# Altium schematic symbol library Schlib.SchLib: 67 symbols
Pins are listed as number, name and electrical type; pins without a type are passive.

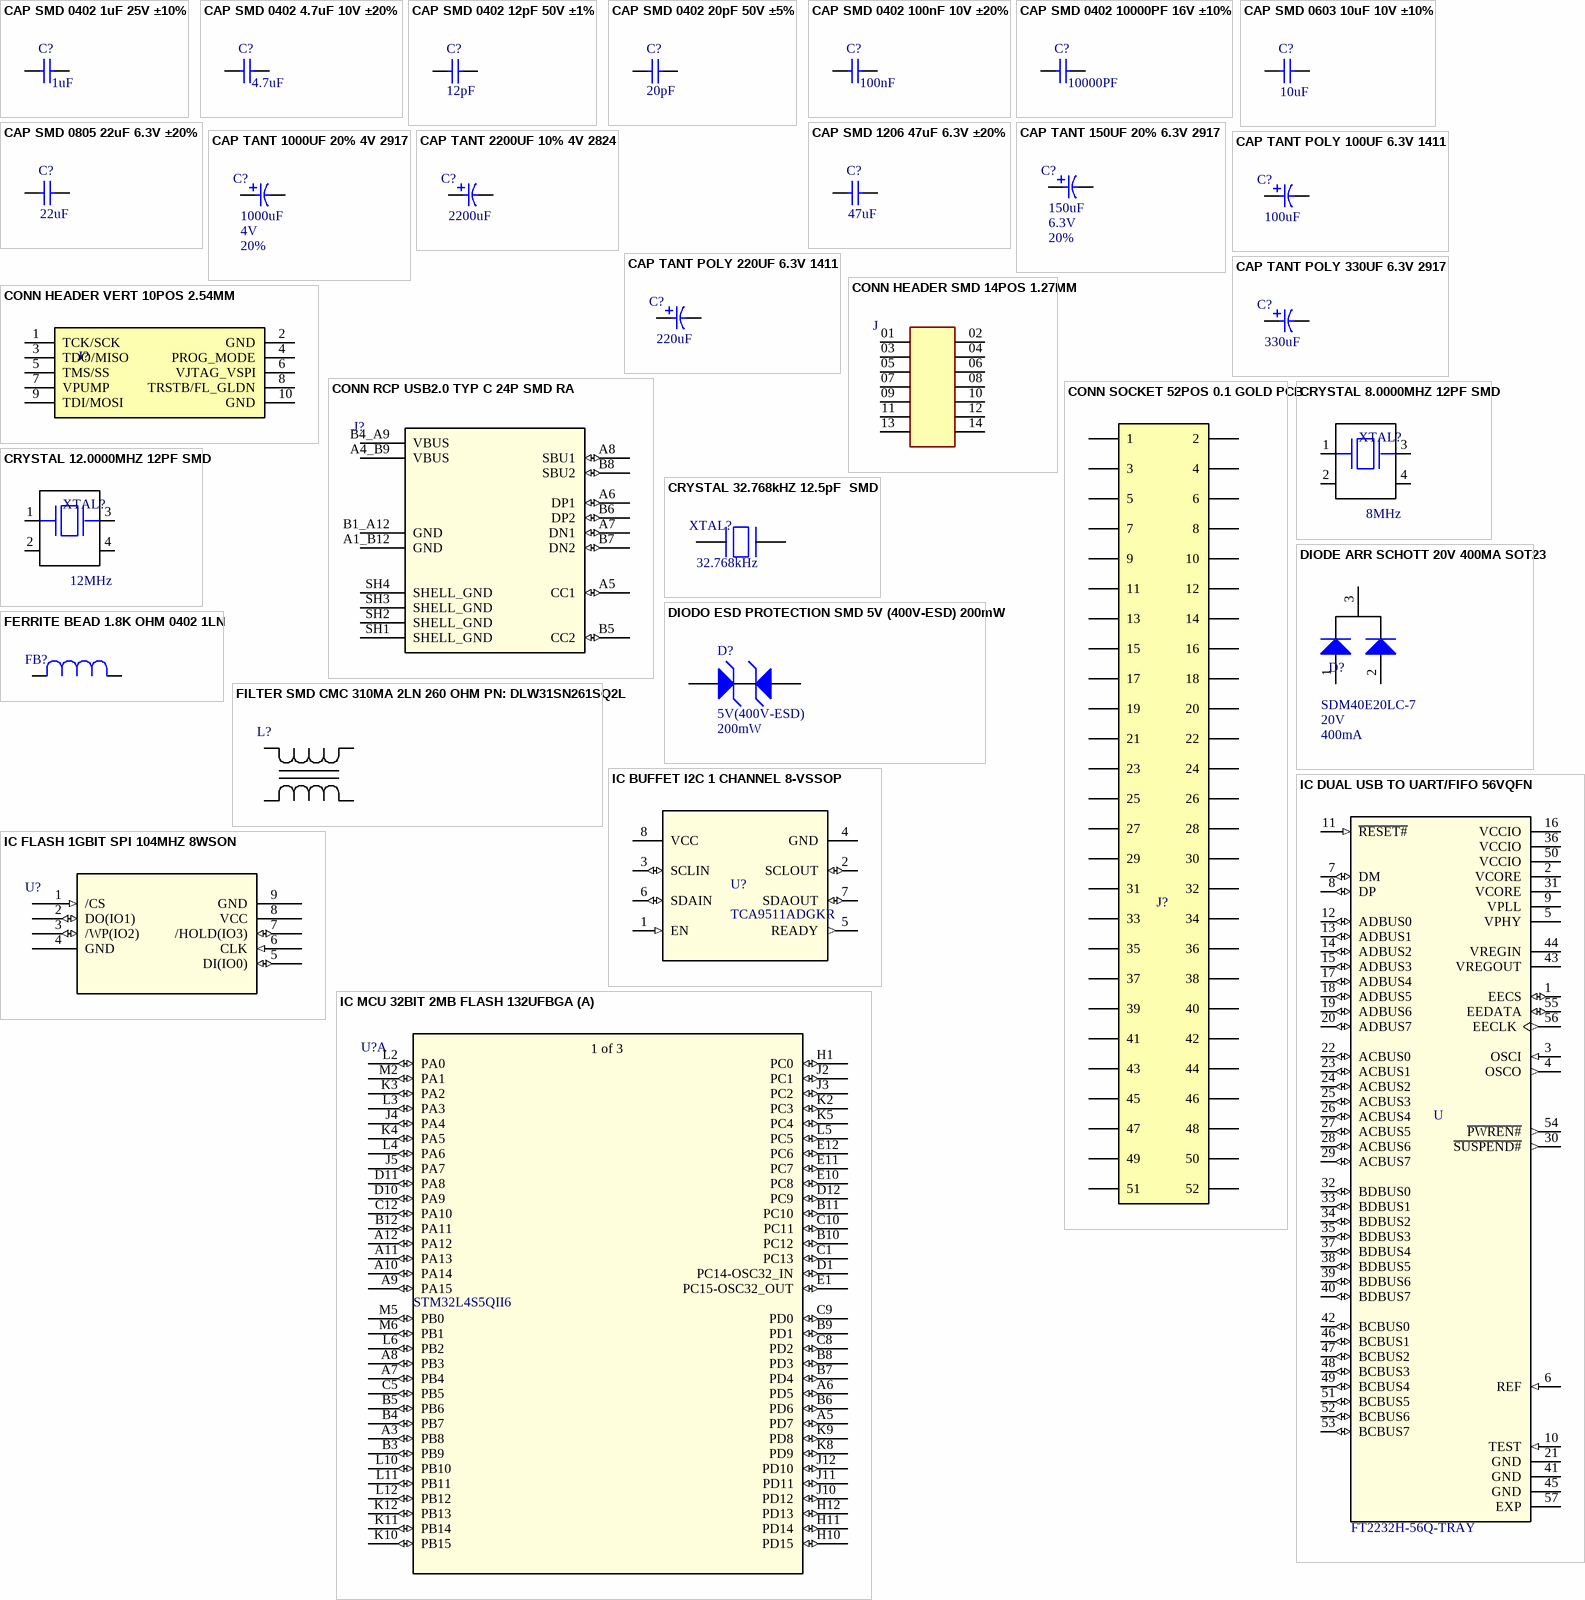
[diagram p0: symbols CAP SMD 0402 1uF 25V ±10% to IC MCU 32BIT 2MB FLASH 132UFBGA]

## CAP SMD 0402 1uF 25V ±10%
designator C?, comment value 1uF  (hidden comment: GRM155R61E105KA12D)
CAP SMD 0402 MLCC GERAL 1uF 25V ±10% 0402 X5R PN:GRM155R61E105KA12D MURATA; SIZE: 0402; VOLTAGE: 25V; TOLERANCE: 10%; PN: GRM155R61E105KA12D
footprint 0402-C-R
pins: 1, 2

## CAP SMD 0402 4.7uF 10V ±20%
designator C?, comment value 4.7uF  (hidden comment: GRM155R61A475MEAAD)
CAP SMD 0402 MLCC GERAL 4.7uF 10V ±20% 0402 X5R PN:GRM155R61A475MEAAD MURATA; SIZE: 0402; VOLTAGE: 10V; TOLERANCE: 20%; PN: GRM155R61A475MEAAD
footprint 0402-C-R
pins: 1, 2

## CAP SMD 0402 12pF 50V ±1%
designator C?, comment value 12pF  (hidden comment: GCM1555C1H120FA16J)
CAP SMD CER 12pF 50V ±1% 0402 C0G,NP0 TAPE PN: GCM1555C1H120FA16J; POWER: 50V; TOLERANCE: 1%; PN: GCM1555C1H120FA16J
footprint 0402-C-R
pins: 1, 2

## CAP SMD 0402 20pF 50V ±5%
designator C?, comment value 20pF  (hidden comment: CC0402JRNPO9BN200)
CAP SMD CER 20pF 50V ±5% 0402 C0G,NP0 TAPE PN:CC0402JRNPO9BN200 YAGEO; POWER: 50V; TOLERANCE: 5%; PN: CC0402JRNPO9BN200
footprint 0402-C-R
pins: 1, 2

## CAP SMD 0402 100nF 10V ±20%
designator C?, comment value 100nF  (hidden comment: C0402C104K8RACTU)
CAP SMD 0402 MLCC GERAL 100nF 10V ±20% 0402 X7R PN:C0402C104K8RACTU KEMET; SIZE: 0402; VOLTAGE: 10V; TOLERANCE: 20%; PN: C0402C104K8RACTU
footprint 0402-C-R
footprint 0402-C-R - S
pins: 1, 2

## CAP SMD 0402 10000PF 16V ±10%
designator C?, comment value 10000PF  (hidden comment: C0402C103K4RACTU)
CAP SMD 0402 MLCC GERAL 10000PF 16V ±10% 0402 X7R PN:C0402C103K4RACTU KEMET; SIZE: 0402; VOLTAGE: 16V; TOLERANCE: 10%; PN: C0402C103K4RACTU
footprint 0402-C-R
footprint 0402-C-R - S
pins: 1, 2

## CAP SMD 0603 10uF 10V ±10%
designator C?  value 10uF
CAP SMD 0603 MLCC GERAL 10uF 10V ±10% X7R PN: GRM188Z71A106KA73D; SIZE: 0603; PN: GRM188Z71A106KA73D; VOLTAGE: 10V; TOLERANCE: 10%
footprint 0603-C-R
pins: 1, 2

## CAP SMD 0805 22uF 6.3V ±20%
designator C?, comment value 22uF  (hidden comment: GRM21BZ70J226ME44L)
CAP SMD 0805 MLCC GERAL 22uF 6.3V ±20% X7R PN:GRM21BZ70J226ME44L; SIZE: 0805; VOLTAGE: 6.3V; TOLERANCE: 20%; PN: GRM21BZ70J226ME44L
footprint 0805-C-R
pins: 1, 2

## CAP SMD 1206 47uF 6.3V ±20%
designator C?, comment value 47uF  (hidden comment: C3216X7S0J476M160AC)
CAP SMD 1206 MLCC GERAL 47uF 6.3V ±20% X7S PN:C3216X7S0J476M160AC; SIZE: 1206; VOLTAGE: 6.3V; TOLERANCE: 20%; PN: C3216X7S0J476M160AC
footprint 1206-C-R
pins: 1, 2

## CAP TANT 150UF 20% 6.3V 2917
designator C?, comment value 150uF  Tolerance: 20%  Voltage: 6.3V  (hidden comment: T599D157M006ATE045)
CAP TANT 150UF 20% 6.3V 2917 PN: T599D157M006ATE045; Mfr_Name: Kemet; PN: T599D157M006ATE045
footprint CAPMP7.6X4.3_3.1N_KEM
pins: 1, 2

## CAP TANT 1000UF 20% 4V 2917
designator C?, comment value 1000uF  Tolerance: 20%  Voltage: 4V  (hidden comment: T530X108M004ATE006)
CAP TANT 1000UF 20% 4V 2917 PN: T530X108M004ATE006; Mfr_Name: Kemet
footprint CAPMP7.6X4.3_3.1N_KEM
pins: 1, 2

## CAP TANT 2200UF 10% 4V 2824
designator C?, comment value 2200uF  (hidden comment: F750G228KRC)
CAP TANT 2200UF 10% 4V 2824 PN: F750G228KRC; Mfr_Name: Kemet; Tolerance: 20%; PN: F750G228KRC; Voltage: 4V
footprint TANT_2824_AVX
pins: 1, 2

## CAP TANT POLY 100UF 6.3V 1411
designator C?, comment value 100uF  (hidden comment: T598B107M006ATE045)
CAP TANT POLY 100UF 6.3V 1411 PN: T598B107M006ATE045; Mfr_Name: Kemet; Tolerance: 20%; Voltage: 6.3V; PN: T598B107M006ATE045
footprint TANT_1411_KEMET
pins: 1, 2

## CAP TANT POLY 220UF 6.3V 1411
designator C?, comment value 220uF  (hidden comment: T591B227M006ATE070)
CAP TANT POLY 220UF 6.3V 1411 PN: T591B227M006ATE070; Mfr_Name: Kemet; Tolerance: 20%; PN: T591B227M006ATE070; Voltage: 6.3V
footprint TANT_1411_KEMET
pins: 1, 2

## CAP TANT POLY 330UF 6.3V 2917
designator C?, comment value 330uF  (hidden comment: T598D337M006ATE080)
CAP TANT POLY 330UF 6.3V 2917 PN: T598D337M006ATE080; Mfr_Name: Kemet; Tolerance: 20%; PN: T598D337M006ATE080; Voltage: 6.3V
footprint TANT_2917_KEMET
pins: 1, 2

## CONN HEADER SMD 14POS 1.27MM
designator J  (value not drawn)
CONN HEADER SMD 14POS 1.27MM PN: FTSH-107-01-L-DV-K-A; MF: Samtec Inc.; Package: None; Value: *; Price: None; PN: FTSH-107-01-L-DV-K-A; SnapEDA_Link: https://www.snapeda.com/parts/FTSH-107-01-L-DV-K-A/Samtec%20Inc./view-part/2791957/?ref=snap; Availability: Bad
footprint SAMTEC_FTSH-107-01-L-DV-K-A
pins: 01, 02, 03, 04, 05, 06, 07, 08, 09, 10, 11, 12, 13, 14

## CONN HEADER VERT 10POS 2.54MM
designator J?, comment SBH11-PBPC-D05-ST-BK  (value not drawn)
CONN HEADER VERT 10POS 2.54MM PN: SBH11-PBPC-D05-ST-BK; MF: Sullins Connector; SnapEDA_Link: https://www.snapeda.com/parts/SBH11-PBPC-D05-ST-BK/Sullins+Connector+Solutions/view-part/?ref=snap; Package: None; Value: *; PN: SBH11-PBPC-D05-ST-BK; Check_prices: https://www.snapeda.com/parts/SBH11-PBPC-D05-ST-BK/Sullins+Connector+Solutions/view-part/?ref=eda
footprint SULLINS_SBH11-PBPC-D05-ST-BK
pins: 1 TCK/SCK, 2 GND, 3 TDO/MISO, 4 PROG_MODE, 5 TMS/SS, 6 VJTAG_VSPI, 7 VPUMP, 8 TRSTB/FL_GLDN, 9 TDI/MOSI, 10 GND

## CONN RCP USB2.0 TYP C 24P SMD RA
designator J?  (value not drawn)
CONN RCP USB2.0 TYP C 24P SMD RA PN: USB4105-GF-A; MF: {'manufacturer': u'GCT'}; Package: None; Price: None; Value: *; PN: USB4105-GF-A; Availability: Unavailable
footprint GCT_USB4105-GF-A
pins: A1_B12 GND (power), A4_B9 VBUS (power), A5 CC1 (io), A6 DP1 (io), A7 DN1 (io), A8 SBU1 (io), B1_A12 GND (power), B4_A9 VBUS (power), B5 CC2 (io), B6 DP2 (io), B7 DN2 (io), B8 SBU2 (io), SH1 SHELL_GND (power), SH2 SHELL_GND (power), SH3 SHELL_GND (power), SH4 SHELL_GND (power)

## CONN SOCKET 52POS 0.1 GOLD PCB
designator J?, comment ESQ-126-39-G-D  (value not drawn)
CONN SOCKET 52POS 0.1 GOLD PCB PN: ESQ-126-39-G-D; MF: Samtec; Package: None; PN: ESQ-126-39-G-D; Value: *; Availability: Unavailable; Price: None; SnapEDA_Link: https://www.snapeda.com/parts/ESQ-126-39-G-D/Samtec%20Inc./view-part/490181/?ref=snap
footprint SAMTEC_ESQ-126-39-G-D
pins: 01 1, 02 2, 03 3, 04 4, 05 5, 06 6, 07 7, 08 8, 09 9, 10, 11, 12, 13, 14, 15, 16, 17, 18, 19, 20, 21, 22, 23, 24, 25, 26, 27, 28, 29, 30, 31, 32, 33, 34, 35, 36, 37, 38, 39, 40, 41, 42, 43, 44, 45, 46, 47, 48, 49, 50, 51, 52

## CRYSTAL 8.0000MHZ 12PF SMD
designator XTAL?, comment FRQ: 8MHz  (hidden comment: ECS-80-12-33-JGN-TR)
CRYSTAL 8.0000MHZ 12PF SMD PN: ECS-80-12-33-JGN-TR; MF: Abracon LLC; Price: None; SnapEDA_Link: https://www.snapeda.com/parts/ABM12-48.000MHZ-B2X-T3/Abracon+LLC/view-part/?ref=snap; Purchase-URL: https://pricing.snapeda.com/search/part/ABM12-48.000MHZ-B2X-T3/?ref=eda; Package: SMD-4 Abracon LLC; Availability: In Stock; PN: ECS-80-12-33-JGN-TR; Check_prices: https://www.snapeda.com/parts/ABM12-48.000MHZ-B2X-T3/Abracon+LLC/view-part/?ref=eda
footprint XTAL_ECS-240-8-33-AGN-TR
pins: 1, 2 GND (power), 3 2, 4 GND (power)

## CRYSTAL 12.0000MHZ 12PF SMD
designator XTAL?, comment FRQ: 12MHz  (hidden comment: ECS-120-12-36-AGN-TR3)
CRYSTAL 12.0000MHZ 12PF SMD PN: ECS-120-12-36-AGN-TR3; MF: Abracon LLC; Price: None; SnapEDA_Link: https://www.snapeda.com/parts/ABM12-48.000MHZ-B2X-T3/Abracon+LLC/view-part/?ref=snap; Purchase-URL: https://pricing.snapeda.com/search/part/ABM12-48.000MHZ-B2X-T3/?ref=eda; Package: SMD-4 Abracon LLC; Availability: In Stock; PN: ECS-120-12-36-AGN-TR3; Check_prices: https://www.snapeda.com/parts/ABM12-48.000MHZ-B2X-T3/Abracon+LLC/view-part/?ref=eda
footprint XTAL_ECS-240-8-33-AGN-TR
pins: 1, 2 GND (power), 3 2, 4 GND (power)

## CRYSTAL 32.768kHZ 12.5pF  SMD
designator XTAL?, comment value 32.768kHz  (hidden comment: ECX-.327-CDX-1293)
CRYSTAL 32.768kHZ 12.5pF  SMD; MF: ECS Inc.; PN: ECX-.327-CDX-1293; Digi-Key_Part_Number: XC2292CT-ND; Package: SMD-2 ECS International; Digi-Key_Purchase_URL: https://www.digikey.in/product-detail/en/ecs-inc/ECX-.327-CDX-1293/XC2292CT-ND/6821660?utm_source=snapeda&utm_medium=aggregator&utm_campaign=symbol; SnapEDA_Link: https://www.snapeda.com/parts/ECX-.327-CDX-1293/ECS%20Inc./view-part/1733917/?ref=snap; Parameter 1: *
footprint XTAL_ECS-.327-12.5-34RR-TR
pins: 1 P$1, 2 P$2

## DIODE ARR SCHOTT 20V 400MA SOT23
designator D?, comment VOLTAGE: 20V  CURRENT: 400mA  (hidden comment: SDM40E20LC-7)
DIODE ARR SCHOTT 20V 400MA SOT23 PN: SDM40E20LC-7; ID: 34496; PN: SDM40E20LC-7
footprint SOT23-R
pins: 1, 2, 3

## DIODO ESD PROTECTION SMD 5V (400V-ESD) 200mW
designator D?, comment value 5V(400V-ESD)  POWER: 200mW  (hidden comment: NP)
DIODO ESD PROTECTION SMD ESD5B5.0ST1G 5V (400V-ESD) 200mW SOD-523 PN:ESD5B5.0ST1G ON; ID: 37876; PN: ESD5B5.0ST1G
footprint SOD523-R
pins: 1, 2

## FERRITE BEAD 1.8K OHM 0402 1LN
designator FB?, comment BLM15HD182SN1D  (value not drawn)
FERRITE BEAD 1.8K OHM 0402 1LN PN: BLM15HD182SN1D; Mfr_Name: Murata; PN: BLM15HD182SN1D
footprint 0402-F-R
pins: 1, 2

## FILTER SMD CMC 310MA 2LN 260 OHM PN: DLW31SN261SQ2L
designator L?, comment DLW31SN261SQ2L  (value not drawn)
FILTER SMD CMC 310MA 2LN 260 OHM PN: DLW31SN261SQ2L; Vendor: Murata; Built_By: EMA_UL_Team; Type: DEV; PN: DLW31SN261SQ2L; Copyright: Copyright (C) 2018 Accelerated Designs. All rights reserved; RefDes: RefDes; Value: Value
footprint IND_DLW31S_1206
pins: 1, 2, 3, 4

## IC BUFFET I2C 1 CHANNEL 8-VSSOP
designator U?, comment TCA9511ADGKR
Buffer, Accelerator 1 Channel 8-VSSOP PN: TCA9511ADGKR; Manufacturer_Name: Texas Instruments; Description: 2-bit bidirectional 2.3- to 5.5-V hot swappable 400-kHz I2C/SMBus buffer 8-VSSOP -40 to 125; CompType: IC; TYPE: TYPE; RefDes: RefDes; Copyright: Copyright (C) 2025 Ultra Librarian. All rights reserved.; Manufacturer_Part_Number: TCA9511ADGKR; Datasheet: https://www.ti.com/lit/gpn/tca9511a; PN: TCA9511ADGKR; PackageReference: DGK0008A; MountType: SMT; Manufacturer: Texas Instruments
footprint DGK0008A_L
pins: 1 EN (in), 2 SCLOUT (io), 3 SCLIN (io), 4 GND (power), 5 READY (out), 6 SDAIN (io), 7 SDAOUT (io), 8 VCC (power)

## IC DUAL USB TO UART/FIFO 56VQFN
designator U  PN: FT2232H-56Q-TRAY  (hidden comment: *)
IC DUAL USB TO UART/FIFO 56VQFN PN: FT2232H-56Q-TRAY; MF: FTDI, Future; SnapEDA_Link: https://www.snapeda.com/parts/FT2232H-56Q-TRAY/FTDI%2C%20Future%20Technology%20Devices%20International%20Ltd/view-part/1223416/?ref=snap; Value: *; Digi-Key_Part_Number: 768-1276-ND; Digi-Key_Purchase_URL: https://www.digikey.ca/product-detail/en/ftdi-future-technology-devices-international-ltd/FT2232H-56Q-TRAY/768-1276-ND/5994773?utm_source=snapeda&utm_medium=aggregator&utm_campaign=symbol; Package: VQFN-56 FTDI
footprint QFN50P800X800X100-57N
pins: 1 EECS (io), 2 VCORE (power), 3 OSCI (in), 4 OSCO (out), 5 VPHY (power), 6 REF (in), 7 DM (io), 8 DP (io), 9 VPLL (power), 10 TEST (in), 11 ~{RESET#} (in), 12 ADBUS0 (io), 13 ADBUS1 (io), 14 ADBUS2 (io), 15 ADBUS3 (io), 16 VCCIO (power), 17 ADBUS4 (io), 18 ADBUS5 (io), 19 ADBUS6 (io), 20 ADBUS7 (io), 21 GND (power), 22 ACBUS0 (io), 23 ACBUS1 (io), 24 ACBUS2 (io), 25 ACBUS3 (io), 26 ACBUS4 (io), 27 ACBUS5 (io), 28 ACBUS6 (io), 29 ACBUS7 (io), 30 ~{SUSPEND#} (out), 31 VCORE (power), 32 BDBUS0 (io), 33 BDBUS1 (io), 34 BDBUS2 (io), 35 BDBUS3 (io), 36 VCCIO (power), 37 BDBUS4 (io), 38 BDBUS5 (io), 39 BDBUS6 (io), 40 BDBUS7 (io), 41 GND (power), 42 BCBUS0 (io), 43 VREGOUT (power), 44 VREGIN (power), 45 GND (power), 46 BCBUS1 (io), 47 BCBUS2 (io), 48 BCBUS3 (io), 49 BCBUS4 (io), 50 VCCIO (power), 51 BCBUS5 (io), 52 BCBUS6 (io), 53 BCBUS7 (io), 54 ~{PWREN#} (out), 55 EEDATA (io), 56 EECLK (out), 57 EXP (power)

## IC FLASH 1GBIT SPI 104MHZ 8WSON
designator U?  (value not drawn)
IC FLASH 1GBIT SPI 104MHZ 8WSON PN: W25N01GVZEIG TR; Mfr_Name: Winbond; RefDes: RefDes; Type: Type; PN: W25N01GVZEIG TR
footprint SON127P800X600X80-9N
pins: 1 /CS (in), 2 DO(IO1) (io), 3 /WP(IO2) (io), 4 GND (power), 5 DI(IO0) (io), 6 CLK (in), 7 /HOLD(IO3) (io), 8 VCC (power), 9 GND (power)

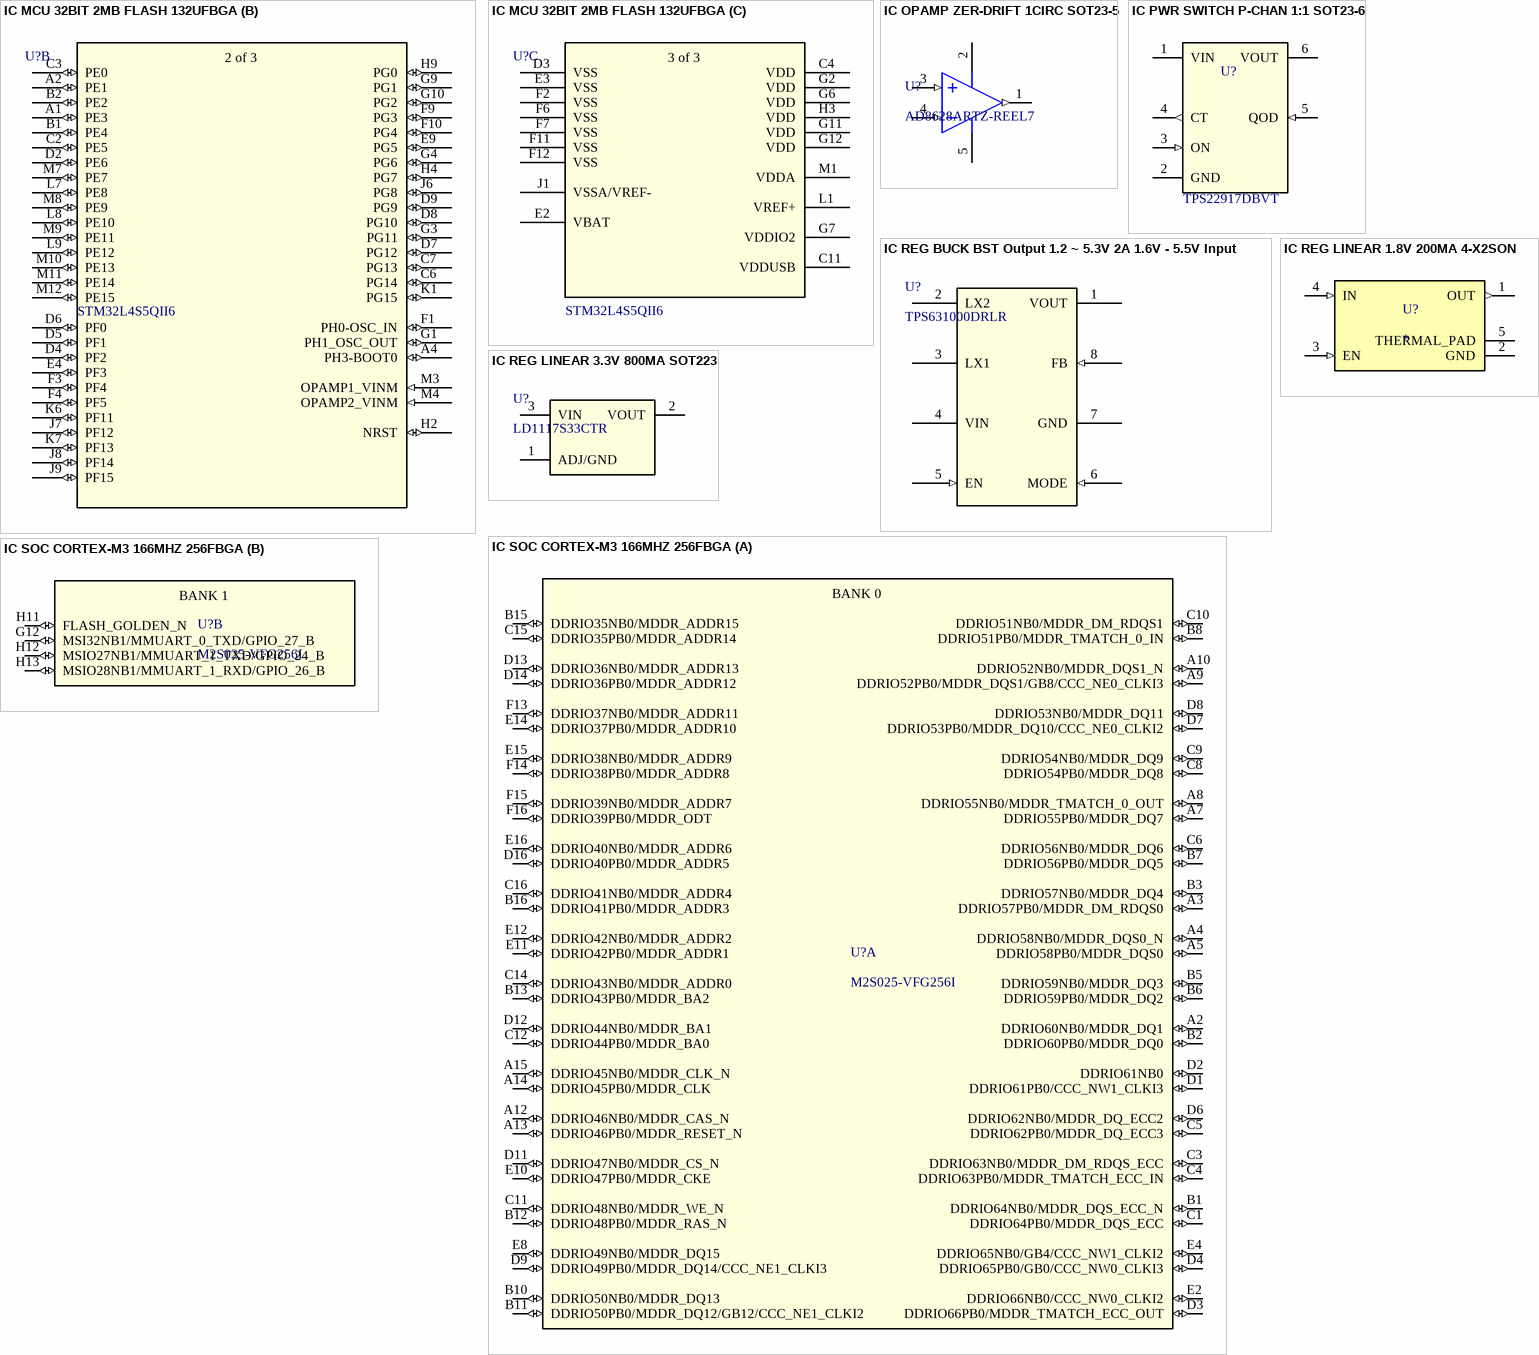
[diagram p1: symbols IC MCU 32BIT 2MB FLASH 132UFBGA to IC SOC CORTEX-M3 166MHZ 256FBGA]

## IC MCU 32BIT 2MB FLASH 132UFBGA
designator U?, comment STM32L4S5QII6
IC MCU 32BIT 2MB FLASH 132UFBGA PN: STM32L4S5QII6; Mfr_Name: STMicroelectronics; RefDes: RefDes; Type: Type; PN: STM32L4S5QII6
footprint UFBGA132-7x7mm
part A pins: A3 PB8 (io), A5 PD7 (io), A6 PD5 (io), A7 PB4 (io), A8 PB3 (io), A9 PA15 (io), A10 PA14 (io), A11 PA13 (io), A12 PA12 (io), B3 PB9 (io), B4 PB7 (io), B5 PB6 (io), B6 PD6 (io), B7 PD4 (io), B8 PD3 (io), B9 PD1 (io), B10 PC12 (io), B11 PC10 (io), B12 PA11 (io), C1 PC13 (io), C5 PB5 (io), C8 PD2 (io), C9 PD0 (io), C10 PC11 (io), C12 PA10 (io), D1 PC14-OSC32_IN (io), D10 PA9 (io), D11 PA8 (io), D12 PC9 (io), E1 PC15-OSC32_OUT (io), E10 PC8 (io), E11 PC7 (io), E12 PC6 (io), H1 PC0 (io), H10 PD15 (io), H11 PD14 (io), H12 PD13 (io), J2 PC1 (io), J3 PC2 (io), J4 PA4 (io), J5 PA7 (io), J10 PD12 (io), J11 PD11 (io), J12 PD10 (io), K2 PC3 (io), K3 PA2 (io), K4 PA5 (io), K5 PC4 (io), K8 PD9 (io), K9 PD8 (io), K10 PB15 (io), K11 PB14 (io), K12 PB13 (io), L2 PA0 (io), L3 PA3 (io), L4 PA6 (io), L5 PC5 (io), L6 PB2 (io), L10 PB10 (io), L11 PB11 (io), L12 PB12 (io), M2 PA1 (io), M5 PB0 (io), M6 PB1 (io)
part B pins: A1 PE3 (io), A2 PE1 (io), A4 PH3-BOOT0 (io), B1 PE4 (io), B2 PE2 (io), C2 PE5 (io), C3 PE0 (io), C6 PG14 (io), C7 PG13 (io), D2 PE6 (io), D4 PF2 (io), D5 PF1 (io), D6 PF0 (io), D7 PG12 (io), D8 PG10 (io), D9 PG9 (io), E4 PF3 (io), E9 PG5 (io), F1 PH0-OSC_IN (io), F3 PF4 (io), F4 PF5 (io), F9 PG3 (io), F10 PG4 (io), G1 PH1_OSC_OUT (io), G3 PG11 (io), G4 PG6 (io), G9 PG1 (io), G10 PG2 (io), H2 NRST (io), H4 PG7 (io), H9 PG0 (io), J6 PG8 (io), J7 PF12 (io), J8 PF14 (io), J9 PF15 (io), K1 PG15 (io), K6 PF11 (io), K7 PF13 (io), L7 PE8 (io), L8 PE10 (io), L9 PE12 (io), M3 OPAMP1_VINM (in), M4 OPAMP2_VINM (in), M7 PE7 (io), M8 PE9 (io), M9 PE11 (io), M10 PE13 (io), M11 PE14 (io), M12 PE15 (io)
part C pins: C4 VDD (power), C11 VDDUSB (power), D3 VSS (power), E2 VBAT (power), E3 VSS (power), F2 VSS (power), F6 VSS (power), F7 VSS (power), F11 VSS (power), F12 VSS (power), G2 VDD (power), G6 VDD (power), G7 VDDIO2 (power), G11 VDD (power), G12 VDD (power), H3 VDD (power), J1 VSSA/VREF- (power), L1 VREF+ (power), M1 VDDA (power)
part A text: 1 of 3
part B text: 2 of 3
part C text: 3 of 3

## IC OPAMP ZER-DRIFT 1CIRC SOT23-5
designator U?, comment AD8628ARTZ-REEL7
IC OPAMP ZER-DRIFT 1CIRC SOT23-5 PN: AD8628ARTZ-REEL7; Mfr_Name: Analog Devices Inc; Copyright: Copyright (C) 2023 Ultra Librarian. All rights reserved.; PN: AD8628ARTZ-REEL7; RefDes: RefDes; Type: DEV
footprint RJ_5_ADI
pins: 1 OUT (out), 2 V- (power), 3 +IN (in), 4 -IN (in), 5 V+ (power)

## IC PWR SWITCH P-CHAN 1:1 SOT23-6
designator U?  PN: TPS22917DBVT  (hidden comment: *)
IC PWR SWITCH P-CHAN 1:1 SOT23-6 PN:  TPS22917DBVT; Mfr_Name: Texas Instruments; TYPE: TYPE; RefDes: RefDes
footprint DBV0006_L
pins: 1 VIN (power), 2 GND (power), 3 ON (in), 4 CT (out), 5 QOD (in), 6 VOUT (power)

## IC REG BUCK BST Output 1.2 ~ 5.3V 2A 1.6V - 5.5V Input
designator U?, comment TPS631000DRLR
IC REG BUCK BST Output 1.2 ~ 5.3V 2A 1.6V - 5.5V Input PN: TPS631000DRLR; Mfr_Name: Texas Instruments; RefDes: RefDes; Type: Type; PN: TPS631000DRLR
footprint TPS631000DRLR_TEX
pins: 1 VOUT (power), 2 LX2 (power), 3 LX1 (power), 4 VIN (power), 5 EN (in), 6 MODE (in), 7 GND (power), 8 FB (in)

## IC REG LINEAR 1.8V 200MA 4-X2SON
designator U?
Linear Voltage Regulator IC Positive Fixed 1 Output 200mA 4-X2SON (1x1); MF: {'manufacturer': u'Texas Instruments'}; PN: TPS7A0218PDQNR; Package: None; Price: None; Value: *; Availability: Unavailable
footprint IC_TPS7A0218PDQNR
pins: 1 OUT (out), 2 GND (power), 3 EN (in), 4 IN (in), 5 THERMAL_PAD (power)

## IC REG LINEAR 3.3V 800MA SOT223
designator U?, comment LD1117S33CTR
IC REG LINEAR 3.3V 800MA SOT223 PN: LD1117S33CTR; Mfr_Name: STMicroelectronics; Copyright: Copyright (C) 2024 Ultra Librarian. All rights reserved.; PN: LD1117S33CTR; RefDes: RefDes; Type: DEV
footprint SOT-223_STM
pins: 1 ADJ/GND (power), 2 VOUT (power), 3 VIN (power)

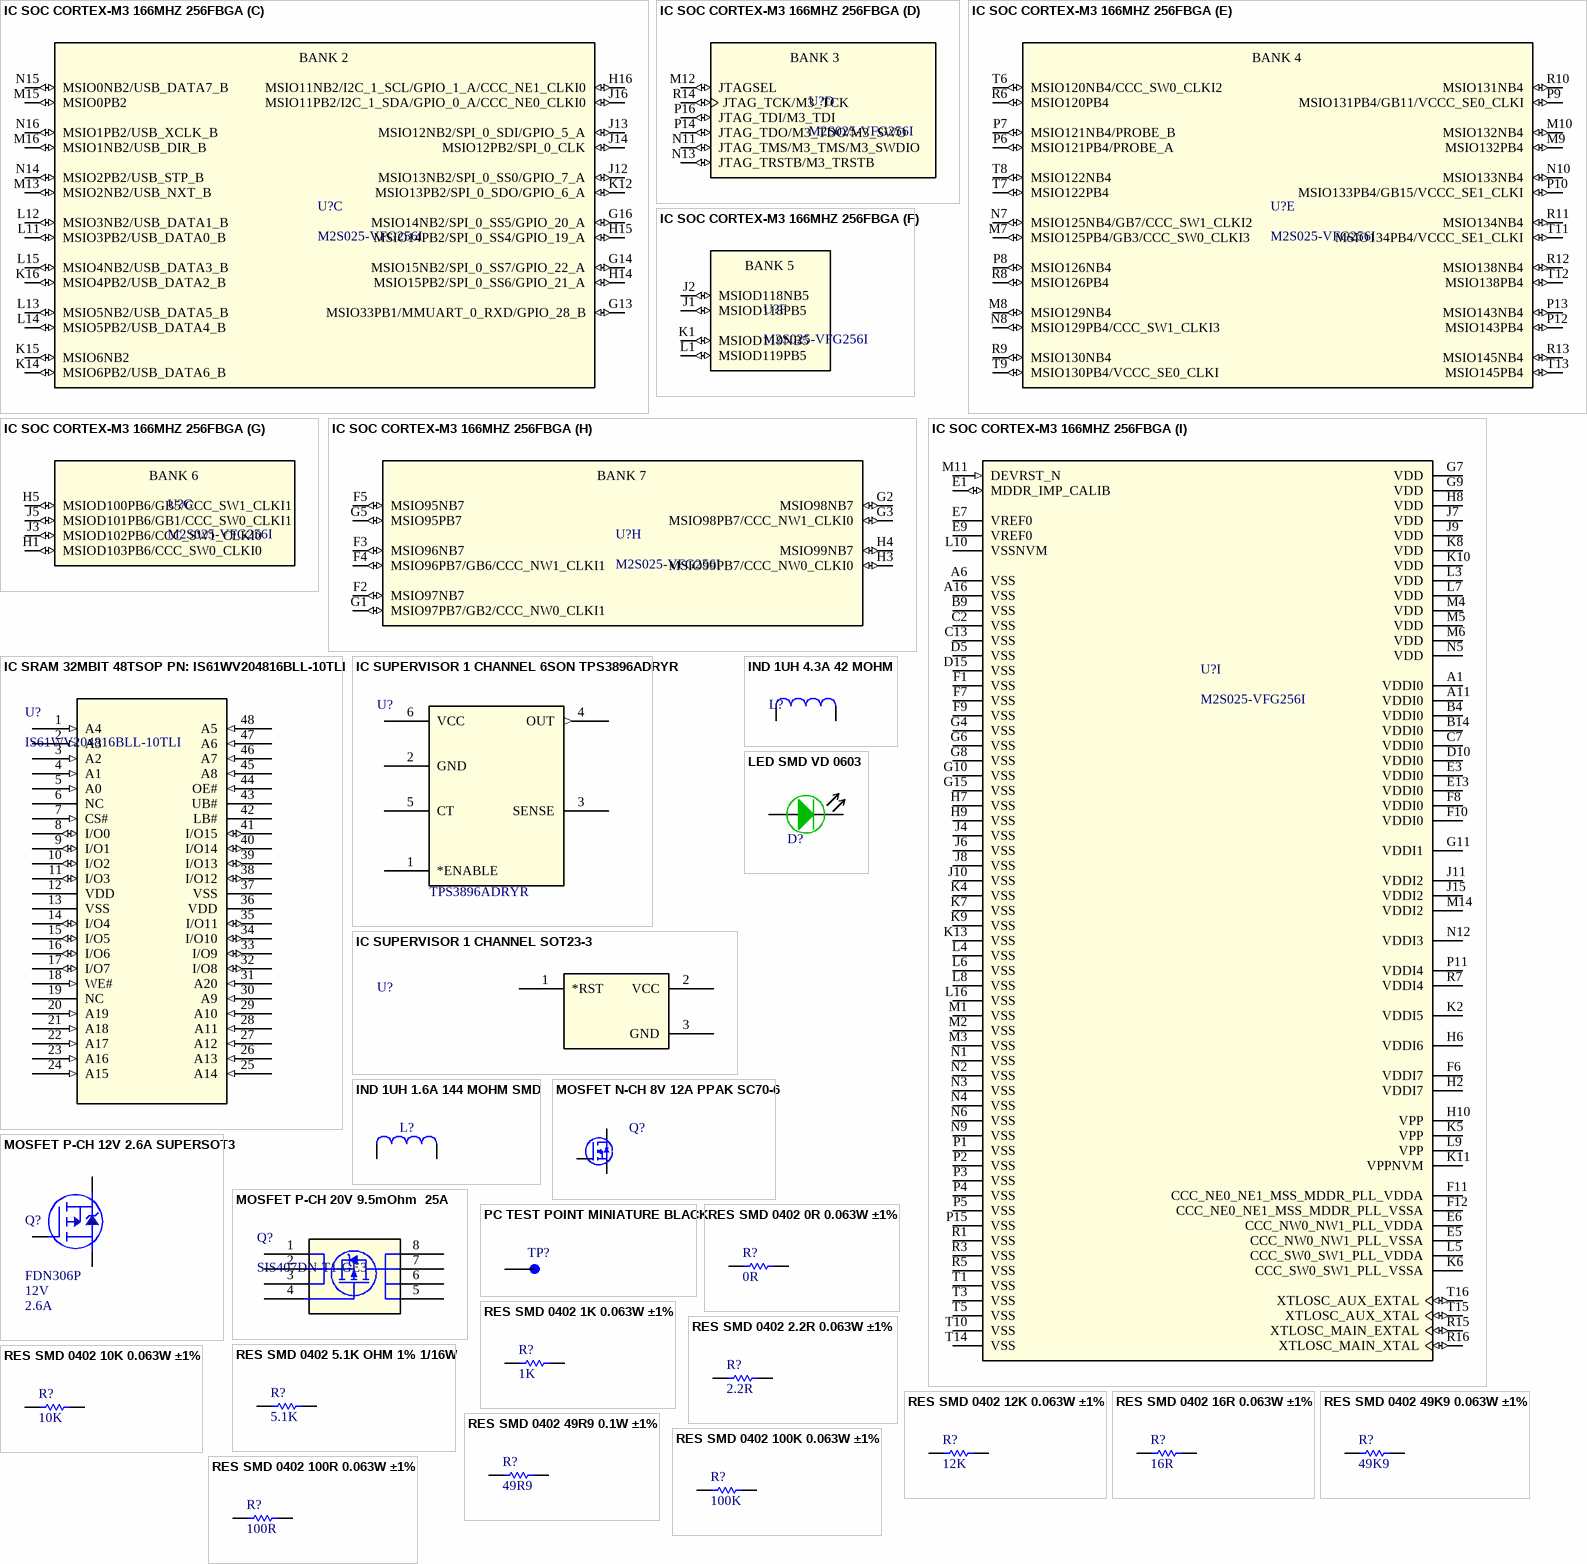
[diagram p2: symbols IC SOC CORTEX-M3 166MHZ 256FBGA to RES SMD 0402 100R 0.063W ±1%]

## IC SOC CORTEX-M3 166MHZ 256FBGA
designator U?, comment M2S025-VFG256I
IC SOC CORTEX-M3 166MHZ 256FBGA PN: M2S025-VFG256I; Package: None; Price: None; Value: *; PN: M2S025-VFG256I; Availability: Unavailable
footprint BGA256C80P16X16_1400X1400X156N
part A pins: A2 DDRIO60NB0/MDDR_DQ1 (io), A3 DDRIO57PB0/MDDR_DM_RDQS0 (io), A4 DDRIO58NB0/MDDR_DQS0_N (io), A5 DDRIO58PB0/MDDR_DQS0 (io), A7 DDRIO55PB0/MDDR_DQ7 (io), A8 DDRIO55NB0/MDDR_TMATCH_0_OUT (io), A9 DDRIO52PB0/MDDR_DQS1/GB8/CCC_NE0_CLKI3 (io), A10 DDRIO52NB0/MDDR_DQS1_N (io), A12 DDRIO46NB0/MDDR_CAS_N (io), A13 DDRIO46PB0/MDDR_RESET_N (io), A14 DDRIO45PB0/MDDR_CLK (io), A15 DDRIO45NB0/MDDR_CLK_N (io), B1 DDRIO64NB0/MDDR_DQS_ECC_N (io), B2 DDRIO60PB0/MDDR_DQ0 (io), B3 DDRIO57NB0/MDDR_DQ4 (io), B5 DDRIO59NB0/MDDR_DQ3 (io), B6 DDRIO59PB0/MDDR_DQ2 (io), B7 DDRIO56PB0/MDDR_DQ5 (io), B8 DDRIO51PB0/MDDR_TMATCH_0_IN (io), B10 DDRIO50NB0/MDDR_DQ13 (io), B11 DDRIO50PB0/MDDR_DQ12/GB12/CCC_NE1_CLKI2 (io), B12 DDRIO48PB0/MDDR_RAS_N (io), B13 DDRIO43PB0/MDDR_BA2 (io), B15 DDRIO35NB0/MDDR_ADDR15 (io), B16 DDRIO41PB0/MDDR_ADDR3 (io), C1 DDRIO64PB0/MDDR_DQS_ECC (io), C3 DDRIO63NB0/MDDR_DM_RDQS_ECC (io), C4 DDRIO63PB0/MDDR_TMATCH_ECC_IN (io), C5 DDRIO62PB0/MDDR_DQ_ECC3 (io), C6 DDRIO56NB0/MDDR_DQ6 (io), C8 DDRIO54PB0/MDDR_DQ8 (io), C9 DDRIO54NB0/MDDR_DQ9 (io), C10 DDRIO51NB0/MDDR_DM_RDQS1 (io), C11 DDRIO48NB0/MDDR_WE_N (io), C12 DDRIO44PB0/MDDR_BA0 (io), C14 DDRIO43NB0/MDDR_ADDR0 (io), C15 DDRIO35PB0/MDDR_ADDR14 (io), C16 DDRIO41NB0/MDDR_ADDR4 (io), D1 DDRIO61PB0/CCC_NW1_CLKI3 (io), D2 DDRIO61NB0 (io), D3 DDRIO66PB0/MDDR_TMATCH_ECC_OUT (io), D4 DDRIO65PB0/GB0/CCC_NW0_CLKI3 (io), D6 DDRIO62NB0/MDDR_DQ_ECC2 (io), D7 DDRIO53PB0/MDDR_DQ10/CCC_NE0_CLKI2 (io), D8 DDRIO53NB0/MDDR_DQ11 (io), D9 DDRIO49PB0/MDDR_DQ14/CCC_NE1_CLKI3 (io), D11 DDRIO47NB0/MDDR_CS_N (io), D12 DDRIO44NB0/MDDR_BA1 (io), D13 DDRIO36NB0/MDDR_ADDR13 (io), D14 DDRIO36PB0/MDDR_ADDR12 (io), D16 DDRIO40PB0/MDDR_ADDR5 (io), E2 DDRIO66NB0/CCC_NW0_CLKI2 (io), E4 DDRIO65NB0/GB4/CCC_NW1_CLKI2 (io), E8 DDRIO49NB0/MDDR_DQ15 (io), E10 DDRIO47PB0/MDDR_CKE (io), E11 DDRIO42PB0/MDDR_ADDR1 (io), E12 DDRIO42NB0/MDDR_ADDR2 (io), E14 DDRIO37PB0/MDDR_ADDR10 (io), E15 DDRIO38NB0/MDDR_ADDR9 (io), E16 DDRIO40NB0/MDDR_ADDR6 (io), F13 DDRIO37NB0/MDDR_ADDR11 (io), F14 DDRIO38PB0/MDDR_ADDR8 (io), F15 DDRIO39NB0/MDDR_ADDR7 (io), F16 DDRIO39PB0/MDDR_ODT (io)
part B pins: G12 MSI32NB1/MMUART_0_TXD/GPIO_27_B (io), H11 FLASH_GOLDEN_N (io), H12 MSIO27NB1/MMUART_1_TXD/GPIO_24_B (io), H13 MSIO28NB1/MMUART_1_RXD/GPIO_26_B (io)
part C pins: G13 MSIO33PB1/MMUART_0_RXD/GPIO_28_B (io), G14 MSIO15NB2/SPI_0_SS7/GPIO_22_A (io), G16 MSIO14NB2/SPI_0_SS5/GPIO_20_A (io), H14 MSIO15PB2/SPI_0_SS6/GPIO_21_A (io), H15 MSIO14PB2/SPI_0_SS4/GPIO_19_A (io), H16 MSIO11NB2/I2C_1_SCL/GPIO_1_A/CCC_NE1_CLKI0 (io), J12 MSIO13NB2/SPI_0_SS0/GPIO_7_A (io), J13 MSIO12NB2/SPI_0_SDI/GPIO_5_A (io), J14 MSIO12PB2/SPI_0_CLK (io), J16 MSIO11PB2/I2C_1_SDA/GPIO_0_A/CCC_NE0_CLKI0 (io), K12 MSIO13PB2/SPI_0_SDO/GPIO_6_A (io), K14 MSIO6PB2/USB_DATA6_B (io), K15 MSIO6NB2 (io), K16 MSIO4PB2/USB_DATA2_B (io), L11 MSIO3PB2/USB_DATA0_B (io), L12 MSIO3NB2/USB_DATA1_B (io), L13 MSIO5NB2/USB_DATA5_B (io), L14 MSIO5PB2/USB_DATA4_B (io), L15 MSIO4NB2/USB_DATA3_B (io), M13 MSIO2NB2/USB_NXT_B (io), M15 MSIO0PB2 (io), M16 MSIO1NB2/USB_DIR_B (io), N14 MSIO2PB2/USB_STP_B (io), N15 MSIO0NB2/USB_DATA7_B (io), N16 MSIO1PB2/USB_XCLK_B (io)
part D pins: M12 JTAGSEL (io), N11 JTAG_TMS/M3_TMS/M3_SWDIO (io), N13 JTAG_TRSTB/M3_TRSTB (io), P14 JTAG_TDO/M3_TDO/M3_SWO (io), P16 JTAG_TDI/M3_TDI (io), R14 JTAG_TCK/M3_TCK (io)
part E pins: M7 MSIO125PB4/GB3/CCC_SW0_CLKI3 (io), M8 MSIO129NB4 (io), M9 MSIO132PB4 (io), M10 MSIO132NB4 (io), N7 MSIO125NB4/GB7/CCC_SW1_CLKI2 (io), N8 MSIO129PB4/CCC_SW1_CLKI3 (io), N10 MSIO133NB4 (io), P6 MSIO121PB4/PROBE_A (io), P7 MSIO121NB4/PROBE_B (io), P8 MSIO126NB4 (io), P9 MSIO131PB4/GB11/VCCC_SE0_CLKI (io), P10 MSIO133PB4/GB15/VCCC_SE1_CLKI (io), P12 MSIO143PB4 (io), P13 MSIO143NB4 (io), R6 MSIO120PB4 (io), R8 MSIO126PB4 (io), R9 MSIO130NB4 (io), R10 MSIO131NB4 (io), R11 MSIO134NB4 (io), R12 MSIO138NB4 (io), R13 MSIO145NB4 (io), T6 MSIO120NB4/CCC_SW0_CLKI2 (io), T7 MSIO122PB4 (io), T8 MSIO122NB4 (io), T9 MSIO130PB4/VCCC_SE0_CLKI (io), T11 MSIO134PB4/VCCC_SE1_CLKI (io), T12 MSIO138PB4 (io), T13 MSIO145PB4 (io)
part F pins: J1 MSIOD118PB5 (io), J2 MSIOD118NB5 (io), K1 MSIOD119NB5 (io), L1 MSIOD119PB5 (io)
part G pins: H1 MSIOD103PB6/CCC_SW0_CLKI0 (io), H5 MSIOD100PB6/GB5/CCC_SW1_CLKI1 (io), J3 MSIOD102PB6/CCC_SW1_CLKI0 (io), J5 MSIOD101PB6/GB1/CCC_SW0_CLKI1 (io)
part H pins: F2 MSIO97NB7 (io), F3 MSIO96NB7 (io), F4 MSIO96PB7/GB6/CCC_NW1_CLKI1 (io), F5 MSIO95NB7 (io), G1 MSIO97PB7/GB2/CCC_NW0_CLKI1 (io), G2 MSIO98NB7 (io), G3 MSIO98PB7/CCC_NW1_CLKI0 (io), G5 MSIO95PB7 (io), H3 MSIO99PB7/CCC_NW0_CLKI0 (io), H4 MSIO99NB7 (io)
part I pins: A1 VDDI0 (power), A6 VSS (power), A11 VDDI0 (power), A16 VSS (power), B4 VDDI0 (power), B9 VSS (power), B14 VDDI0 (power), C2 VSS (power), C7 VDDI0 (power), C13 VSS (power), D5 VSS (power), D10 VDDI0 (power), D15 VSS (power), E1 MDDR_IMP_CALIB (io), E3 VDDI0 (power), E5 CCC_NW0_NW1_PLL_VSSA (power), E6 CCC_NW0_NW1_PLL_VDDA (power), E7 VREF0 (power), E9 VREF0 (power), E13 VDDI0 (power), F1 VSS (power), F6 VDDI7 (power), F7 VSS (power), F8 VDDI0 (power), F9 VSS (power), F10 VDDI0 (power), F11 CCC_NE0_NE1_MSS_MDDR_PLL_VDDA (power), F12 CCC_NE0_NE1_MSS_MDDR_PLL_VSSA (power), G4 VSS (power), G6 VSS (power), G7 VDD (power), G8 VSS (power), G9 VDD (power), G10 VSS (power), G11 VDDI1 (power), G15 VSS (power), H2 VDDI7 (power), H6 VDDI6 (power), H7 VSS (power), H8 VDD (power), H9 VSS (power), H10 VPP (power), J4 VSS (power), J6 VSS (power), J7 VDD (power), J8 VSS (power), J9 VDD (power), J10 VSS (power), J11 VDDI2 (power), J15 VDDI2 (power), K2 VDDI5 (power), K4 VSS (power), K5 VPP (power), K6 CCC_SW0_SW1_PLL_VSSA (power), K7 VSS (power), K8 VDD (power), K9 VSS (power), K10 VDD (power), K11 VPPNVM (power), K13 VSS (power), L3 VDD (power), L4 VSS (power), L5 CCC_SW0_SW1_PLL_VDDA (power), L6 VSS (power), L7 VDD (power), L8 VSS (power), L9 VPP (power), L10 VSSNVM (power), L16 VSS (power), M1 VSS (power), M2 VSS (power), M3 VSS (power), M4 VDD (power), M5 VDD (power), M6 VDD (power), M11 DEVRST_N (in), M14 VDDI2 (power), N1 VSS (power), N2 VSS (power), N3 VSS (power), N4 VSS (power), N5 VDD (power), N6 VSS (power), N9 VSS (power), N12 VDDI3 (power), P1 VSS (power), P2 VSS (power), P3 VSS (power), P4 VSS (power), P5 VSS (power), P11 VDDI4 (power), P15 VSS (power), R1 VSS (power), R3 VSS (power), R5 VSS (power), R7 VDDI4 (power), R15 XTLOSC_MAIN_EXTAL (io), R16 XTLOSC_MAIN_XTAL (io), T1 VSS (power), T3 VSS (power), T5 VSS (power), T10 VSS (power), T14 VSS (power), T15 XTLOSC_AUX_XTAL (io), T16 XTLOSC_AUX_EXTAL (io)
part A text: BANK 0
part B text: BANK 1
part C text: BANK 2
part D text: BANK 3
part E text: BANK 4
part F text: BANK 5
part G text: BANK 6
part H text: BANK 7

## IC SRAM 32MBIT 48TSOP PN: IS61WV204816BLL-10TLI
designator U?, comment IS61WV204816BLL-10TLI
IC SRAM 32MBIT 48TSOP PN: IS61WV204816BLL-10TLI; Mfr_Name: ISSI; Copyright: Copyright (C) 2023 Ultra Librarian. All rights reserved.; PN: IS61WV204816BLL-10TLI; RefDes: RefDes; Type: DEV
footprint 48L_TSOP-1_12X20_ISI
pins: 1 A4 (in), 2 A3 (in), 3 A2 (in), 4 A1 (in), 5 A0 (in), 6 NC, 7 CS# (in), 8 I/O0 (io), 9 I/O1 (io), 10 I/O2 (io), 11 I/O3 (io), 12 VDD (power), 13 VSS, 14 I/O4 (io), 15 I/O5 (io), 16 I/O6 (io), 17 I/O7 (io), 18 WE# (in), 19 NC, 20 A19 (in), 21 A18 (in), 22 A17 (in), 23 A16 (in), 24 A15 (in), 25 A14 (in), 26 A13 (in), 27 A12 (in), 28 A11 (in), 29 A10 (in), 30 A9 (in), 31 A20 (in), 32 I/O8 (io), 33 I/O9 (io), 34 I/O10 (io), 35 I/O11 (io), 36 VDD (power), 37 VSS, 38 I/O12 (io), 39 I/O13 (io), 40 I/O14 (io), 41 I/O15 (io), 42 LB#, 43 UB#, 44 OE# (in), 45 A8 (in), 46 A7 (in), 47 A6 (in), 48 A5 (in)

## IC SUPERVISOR 1 CHANNEL 6SON TPS3896ADRYR
designator U?  PN: TPS3896ADRYR  (hidden comment: *)
IC SUPERVISOR 1 CHANNEL 6SON PN: TPS3896ADRYR; Mfr_Name: Texas Instruments; RefDes: RefDes; Type: Type
footprint DRY6
pins: 1 *ENABLE, 2 GND (power), 3 SENSE, 4 OUT (out), 5 CT, 6 VCC (power)

## IC SUPERVISOR 1 CHANNEL SOT23-3
designator U?, comment DS1818R-5+T&R  (value not drawn)
IC SUPERVISOR 1 CHANNEL SOT23-3 / PN: DS1818R-5+T&R; Mfr_Name: Analog Devices / Maxim Integrated; Copyright: Copyright (C) 2024 Ultra Librarian. All rights reserved.; PN: DS1818R-5+T&R; RefDes: RefDes; Type: DEV
footprint 21-0051H_MXM
pins: 1 *RST, 2 VCC (power), 3 GND (power)

## IND 1UH 1.6A 144 MOHM SMD
designator L?  (value not drawn)
IND 1UH 1.6A 144 MOHM SMDPN: DFE18SAN1R0ME0L; MF: Murata Electronics; PN: DFE18SAN1R0ME0L; Package: 1608 ICS; DigiKey-Purchase-URL: https://snapeda.com/shop?store=DigiKey&id=4221634; Value: *; Mouser-Purchase-URL: https://snapeda.com/shop?store=Mouser&id=4221634; SnapEDA_Link: https://www.snapeda.com/parts/DFE18SAN1R0ME0L/Applied%20Avionics/view-part/4221634/?ref=snap; Part Number: DFE18SAN1R0ME0L
footprint INDC1608X80N
pins: 1, 2

## IND 1UH 4.3A 42 MOHM
designator L?, comment CLF7045T-2R2N-D  (value not drawn)
FIXED IND 1UH 4.3A 42MOHM PN: DFE252012P-1R0M=P2; MF: TDK; Digi-Key_Part_Number: 445-9553-2-ND; Package: NON STANDARD-2 TDK; PN: CLF7045T-2R2N-D; Value: *; SnapEDA_Link: https://www.snapeda.com/parts/CLF7045T-2R2N-D/TDK/view-part/?ref=snap; Check_prices: https://www.snapeda.com/parts/CLF7045T-2R2N-D/TDK/view-part/?ref=eda; Purchase-URL: https://pricing.snapeda.com/search/part/CLF7045T-2R2N-D/?ref=eda
footprint INDC2520X120N
pins: 1, 2

## LED SMD VD 0603
designator D?, comment 150060GS75000  (value not drawn)
LED SMD VD ALTO BRILHO 1,6x0,8x0,8mm 430mcd PN:150060GS75000 0603 WURTH; ID: ?; PN: 150060GS75000
footprint LED0603
pins: 1 K, 2 A

## MOSFET N-CH 8V 12A PPAK SC70-6
designator Q?
MOSFET N-CH 8V 12A PPAK SC70-6 PN: SIA436DJ-T1-GE3; ID: 5714; CÓDIGO: 1003180105; PN: SIA436DJ-T1-GE3
footprint SC70-6L_VIS
pins: 1,2,5,6 D, 3 G, 4,7 S

## MOSFET P-CH 12V 2.6A SUPERSOT3
designator Q?, comment VOLTAGE: 12V  CURRENT: 2.6A  (hidden comment: FDN306P)
MOSFET P-CH 12V 2.6A SUPERSOT3 PN: FDN306P; ID: 37943; PN: FDN306P
footprint SOT23-R
pins: 1 Gate, 2 Source, 3 Drain

## MOSFET P-CH 20V 9.5mOhm  25A
designator Q?, comment SIS407DN-T1-GE3
MOSFET P-CH 20V 25A 9.5mOhm PPAK1212-8 PN: SIS407DN-T1-GE3; Mfr_Name: Vishay; RefDes: RefDes; Type: Type; PN: SIS407DN-T1-GE3
footprint SIS413DN-T1-GE3_VIS
pins: 1 S, 2 S, 3 S, 4 G, 5 D, 6 D, 7 D, 8 D

## PC TEST POINT MINIATURE BLACK
designator TP?, comment 5001  (value not drawn)
PC TEST POINT MINIATURE BLACK PN: 5001; MF: Keystone Electronics Corp.; SnapEDA_Link: https://www.snapeda.com/parts/5001/Keystone+Electronics/view-part/?ref=snap; Package: None; Value: *; PN: 5001; Check_prices: https://www.snapeda.com/parts/5001/Keystone+Electronics/view-part/?ref=eda
footprint KEYSTONE_5001
footprint TEST_POINT
pins: 1

## RES SMD 0402 0R 0.063W ±1%
designator R?, comment value 0R  (hidden comment: RMCF0402ZT0R00)
RES SMD GERAL FILM 0R 0.063W ±1% 0402 7" TAPE PN: RMCF0402ZT0R00 STACKPOLE; PACK: 0402; TOLERANCE: 1%; POWER: 0.063W; PN: RMCF0402ZT0R00
footprint 0402-R-R
pins: 1, 2

## RES SMD 0402 1K 0.063W ±1%
designator R?, comment value 1K  (hidden comment: RMCF0402FT1K00)
RES SMD GERAL FILM 1K 0.063W ±1% 0402 7" TAPE PN: RMCF0402FT1K00 STACKPOLE; PACK: 0402; TOLERANCE: 1%; POWER: 0.063W; PN: RMCF0402FT1K00
footprint 0402-R-R
pins: 1, 2

## RES SMD 0402 2.2R 0.063W ±1%
designator R?, comment value 2.2R  (hidden comment: RC0402FR-072R2L)
RES SMD GERAL FILM 2.2R 0.063W ±1% 0402 7" TAPE PN: RC0402FR-072R2L; PACK: 0402; POWER: 0.063W; TOLERANCE: 1%; PN: RC0402FR-072R2L
footprint 0402-R-R
pins: 1, 2

## RES SMD 0402 5.1K OHM 1% 1/16W
designator R?, comment value 5.1K  (hidden comment: RMCF0402FT5K10)
RES SMD 0402 5.1K OHM 1% 1/16W 0402 PN: RMCF0402FT5K10; PACK: 0402; TOLERANCE: 0.1%; POWER: 0.063W; PN: RMCF0402FT5K10
footprint 0402-R-R
pins: 1, 2

## RES SMD 0402 10K 0.063W ±1%
designator R?, comment value 10K  (hidden comment: RMCF0402FT10K0)
RES SMD GERAL FILM 10K 0.063W ±1% 0402 7" TAPE PN: RMCF0402FT10K0 STACKPOLE; PACK: 0402; POWER: 0.063W; TOLERANCE: 1%; PN: RMCF0402FT10K0
footprint 0402-R-R
pins: 1, 2

## RES SMD 0402 12K 0.063W ±1%
designator R?, comment value 12K  (hidden comment: RMCF0402FT12K0)
RES SMD GERAL FILM 12K 0.063W ±1% 0402 7" TAPE PN: RMCF0402FT12K0; PACK: 0402; POWER: 0.063W; TOLERANCE: 1%; PN: RMCF0402FT12K0
footprint 0402-R-R
pins: 1, 2

## RES SMD 0402 16R 0.063W ±1%
designator R?, comment value 16R  (hidden comment: RMCF0402FT16R0)
RES SMD GERAL FILM 16R 0.063W ±1% 0402 7" TAPE PN: RMCF0402FT16R0 STACKPOLE; PACK: 0402; POWER: 0.063W; TOLERANCE: 1%; PN: RMCF0402FT16R0
footprint 0402-R-R
pins: 1, 2

## RES SMD 0402 49K9 0.063W ±1%
designator R?, comment value 49K9  (hidden comment: RMCF0402FT49K9)
RES SMD GERAL FILM 49K9 0.063W ±1% 0402 7" TAPE PN: RMCF0402FT49K9; PACK: 0402; PN: RMCF0402FT49K9; POWER: 0.063W; TOLERANCE: 1%
footprint 0402-R-R
pins: 1, 2

## RES SMD 0402 49R9 0.1W ±1%
designator R?, comment value 49R9  (hidden comment: ERJ-2RKF49R9X)
RES SMD 0402 49R9 0.1W ±1% / PN: ERJ-2RKF49R9X; PACK: 0402; TOLERANCE: 1%; POWER: 0.1W; PN: ERJ-2RKF49R9X
footprint 0402-R-R
pins: 1, 2

## RES SMD 0402 100K 0.063W ±1%
designator R?, comment value 100K  (hidden comment: RMCF0402FT100K)
RES SMD GERAL FILM 100K 0.063W ±1% 0402 7" TAPE PN: RMCF0402FT100K; PACK: 0402; POWER: 0.063W; TOLERANCE: 1%; PN: RMCF0402FT100K
footprint 0402-R-R
pins: 1, 2

## RES SMD 0402 100R 0.063W ±1%
designator R?, comment value 100R  (hidden comment: RMCF0402FT100R)
RES SMD GERAL FILM 100R 0.063W ±1% 0402 7" TAPE PN: RMCF0402FT100R STACKPOLE; PACK: 0402; POWER: 0.063W; TOLERANCE: 1%; PN: RMCF0402FT100R
footprint 0402-R-R
pins: 1, 2

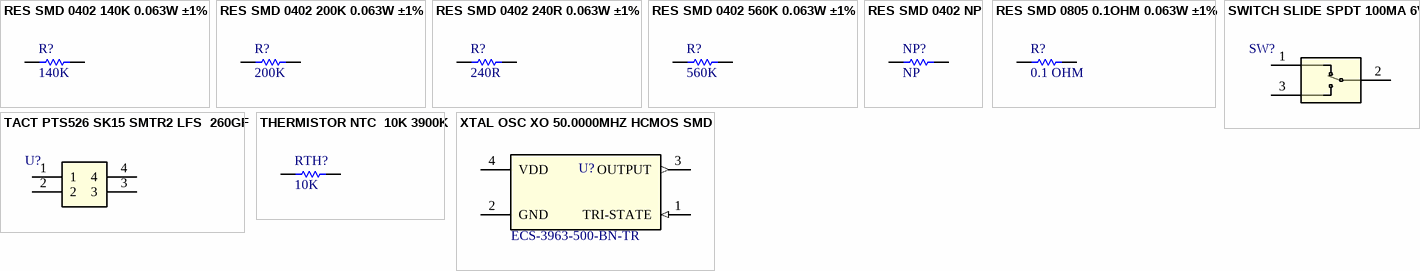
[diagram p3: symbols RES SMD 0402 140K 0.063W ±1% to XTAL OSC XO 50.0000MHZ HCMOS SMD]

## RES SMD 0402 140K 0.063W ±1%
designator R?, comment value 140K  (hidden comment: RMCF0402FT140K)
RES SMD GERAL FILM 140K 0.063W ±1% 0402 7" TAPE PN: RMCF0402FT140K; PACK: 0402; POWER: 0.063W; TOLERANCE: 1%; PN: RMCF0402FT140K
footprint 0402-R-R
pins: 1, 2

## RES SMD 0402 200K 0.063W ±1%
designator R?, comment value 200K  (hidden comment: RMCF0402FT200K)
RES SMD GERAL FILM 200K 0.063W ±1% 0402 7" TAPE PN: RMCF0402FT200K; PACK: 0402; POWER: 0.063W; TOLERANCE: 1%; PN: RMCF0402FT200K
footprint 0402-R-R
pins: 1, 2

## RES SMD 0402 240R 0.063W ±1%
designator R?, comment value 240R  (hidden comment: RMCF0402FT240R)
RES SMD GERAL FILM 240R 0.063W ±1% 0402 7" TAPE PN: RMCF0402FT240R STACKPOLE; PACK: 0402; POWER: 0.063W; TOLERANCE: 1%; PN: RMCF0402FT240R
footprint 0402-R-R
pins: 1, 2

## RES SMD 0402 560K 0.063W ±1%
designator R?, comment value 560K  (hidden comment: RC0402FR-07560KL)
RES SMD GERAL FILM 560K 0.063W ±1% 0402 7" TAPE PN: RC0402FR-07560KL; PACK: 0402; TOLERANCE: 1%; POWER: 0.063W; PN: RC0402FR-07560KL
footprint 0402-R-R
pins: 1, 2

## RES SMD 0402 NP
designator NP?, comment NP
RES SMD 0402 NP; PACK: 0402; VALUE: NP
footprint 0402-R-NP
pins: 1, 2

## RES SMD 0805 0.1OHM 0.063W ±1%
designator R?, comment value 0.1 OHM  (hidden comment: CRL0805-FW-R100ELF)
RES SMD GERAL FILM 0.1R 0.063W ±1% 0805 7" TAPE PN: CRL0805-FW-R100ELF; PACK: 0805; TOLERANCE: 1%; POWER: 0.063W; PN: CRL0805-FW-R100ELF
footprint 0805-R-R
pins: 1, 2

## SWITCH SLIDE SPDT 100MA 6V
designator SW?, comment CJS-1200TB  (value not drawn)
SWITCH SLIDE SPDT 100MA 6V PN: CJS-1200TB; Mfr_Name: Nidec Copal Electronics; Type: Slide Switches; RefDes: RefDes; PN: CJS-1200TB
footprint CJS-1200B_NDC
pins: 1, 2, 3

## TACT PTS526 SK15 SMTR2 LFS  260GF
designator U?, comment PTS526 SK15 SMTR2 LFS  (value not drawn)
TACT PTS526 SK15 SMTR2 LFS  260GF PN: PTS526 SK15 SMTR2 LFS; Built_By: EMA_Matt; Vendor: C&K; SourceLibrary: C&K_2019-11-15; PN: PTS526 SK15 SMTR2 LFS; Copyright: Copyright (C) 2018 Accelerated Designs. All rights reserved; RefDes: RefDes; Type: DEV; Value: Value
footprint SMT_FS
pins: 1, 2, 3, 4

## THERMISTOR NTC  10K 3900K
designator RTH?, comment value 10K  (hidden comment: NCP21XV103J03RA)
THERMISTOR NTC  10K 3900K          PN: NCP21XV103J03RA; ID: 34107; TOLERANCE: 1%; POWER: 0.125W; PN: NCP21XV103J03RA
footprint 0805-R-R
pins: 1, 2

## XTAL OSC XO 50.0000MHZ HCMOS SMD
designator U?, comment ECS-3963-500-BN-TR
XTAL OSC XO 50.0000MHZ HCMOS SMD PN: ECS-3963-500-BN-TR; Package: None; Price: None; Value: *; MP: ECS-3963-500-BN-TR; Availability: Unavailable; PN: ECS-3963-500-BN-TR
footprint OSC_ECS-3963-500-BN-TR
pins: 1 TRI-STATE (in), 2 GND (power), 3 OUTPUT (out), 4 VDD (power)